# Altium schematic symbol library Sensor+eeprom.SCHLIB: 1 symbol
Pins are listed as number, name and electrical type; pins without a type are passive.

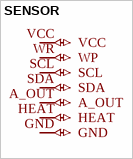
[diagram p0: symbol SENSOR]

## SENSOR
designator ?
GateName_1: G$1; SymbolName_1: SENSOR; LibraryName: Sensor+eeprom; DeviceSetName: SENSOR; Package: SENSOR
footprint SENSOR
pins: A_OUT (io), GND (io), HEAT (io), SCL (io), SDA (io), VCC (io), WR WP (io)